# Altium schematic symbol library TGIS_Power.SchLib: 7 symbols
Pins are listed as number, name and electrical type; pins without a type are passive.

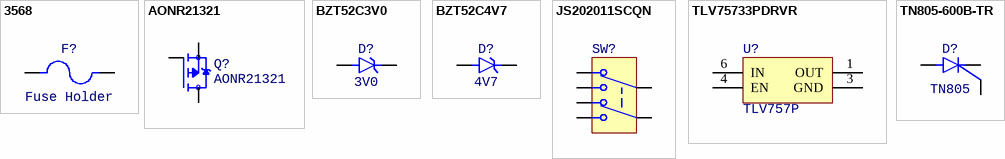
[diagram p0: symbols 3568 to TN805-600B-TR]

## 3568
designator F?, comment Fuse Holder
Fuse Holder 30 A 500V 1 Circuit Blade Through Hole; MP: 3568; Package: None; Availability: Unavailable; Price: None; Value: *; Supplier 1: Future Electronics; Supplier Part Number 1: 4264032
footprint FUSE_3568
pins: 1, 2, 3 1, 4 2

## AONR21321
designator Q?
P-Channel 30 V 24A (Tc) 4.1W (Ta), 24W (Tc) Surface Mount 8-DFN-EP (3x3); MF: Alpha &; SnapEDA_Link: https://www.snapeda.com/parts/AONR21321/Alpha+%2526+Omega+Semiconductor+Inc./view-part/?ref=snap; Package: PowerVDFN-8 Alpha &amp; Omega Semiconductor Inc.; Value: *; MP: AONR21321; Check_prices: https://www.snapeda.com/parts/AONR21321/Alpha+%2526+Omega+Semiconductor+Inc./view-part/?ref=eda; Supplier 1: Digikey; Supplier Part Number 1: 785-1797-1-ND
footprint TRANS_AONR21321
pins: 1 S, 2 S, 3 S, 4 G, 5 D, 6 D, 7 D, 8 D, 9 D, 9_1 D, 9_2 D

## BZT52C3V0
designator D?, comment 3V0
DIODE ZENER 3.0V 500MW SOD123; MP: BZT52C4V7S R9; MF: Taiwan Semiconductor; Availability: In Stock; Package: SOD-323F-2 Taiwan Semiconductor; SnapEDA_Link: https://www.snapeda.com/parts/BZT52C4V7S%20R9/Taiwan+Semiconductor/view-part/?ref=snap; Check_prices: https://www.snapeda.com/parts/BZT52C4V7S%20R9/Taiwan+Semiconductor/view-part/?ref=eda; Value: *; Price: None; Supplier 1: Digikey; Supplier Part Number 1: BZT52C3V0-FDICT-ND
footprint SOD3715X135N
pins: A, K

## BZT52C4V7
designator D?, comment 4V7
DIODE ZENER 4.7V 500MW SOD123; MP: BZT52C4V7S R9; MF: Taiwan Semiconductor; Availability: In Stock; Package: SOD-323F-2 Taiwan Semiconductor; SnapEDA_Link: https://www.snapeda.com/parts/BZT52C4V7S%20R9/Taiwan+Semiconductor/view-part/?ref=snap; Check_prices: https://www.snapeda.com/parts/BZT52C4V7S%20R9/Taiwan+Semiconductor/view-part/?ref=eda; Value: *; Price: None; Supplier 1: Digikey; Supplier Part Number 1: BZT52C4V7-13-FDICT-ND
footprint SOD3715X135N
pins: A, K

## JS202011SCQN
designator SW?  (value not drawn)
Slide Switch DPDT Surface Mount; Supplier 1: Digikey; Supplier Part Number 1: 401-2002-1-ND
footprint SW_JS202011SCQN
pins: 1, 2, 3, 4, 5, 6

## TLV75733PDRVR
designator U?, comment TLV757P
Linear Voltage Regulator IC Positive Fixed 1 Output 1A 6-WSON (2x2); Supplier 1: Digikey; Supplier Part Number 1: 296-49281-1-ND
footprint VREG_TLV75733PDRVR
pins: 1 OUT, 3 GND, 4 EN, 6 IN

## TN805-600B-TR
designator D?, comment TN805
SCR 600 V 8 A Standard Recovery Surface Mount DPAK; MP: BZT52C4V7S R9; MF: Taiwan Semiconductor; Availability: In Stock; Package: SOD-323F-2 Taiwan Semiconductor; SnapEDA_Link: https://www.snapeda.com/parts/BZT52C4V7S%20R9/Taiwan+Semiconductor/view-part/?ref=snap; Check_prices: https://www.snapeda.com/parts/BZT52C4V7S%20R9/Taiwan+Semiconductor/view-part/?ref=eda; Value: *; Price: None; Supplier 1: Digikey; Supplier Part Number 1: 497-6769-1-ND
footprint DPAK_TN
pins: A, G, K